# Altium schematic symbol library WS-ROSV SMD Rotary Switch 7 x 7 mm.SchLib: 4 symbols
Pins are listed as number, name and electrical type; pins without a type are passive.

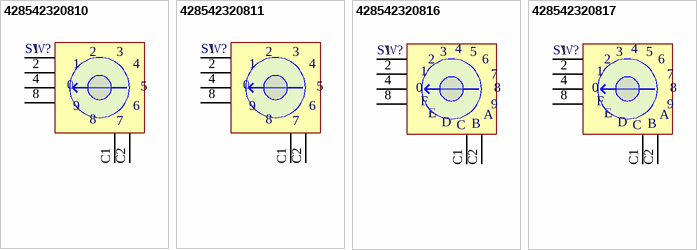
[diagram p0: symbols 428542320810 to 428542320817]

## 428542320810
designator SW?
WS-ROSV SMD Rotary Switch 7 x 7 mm; PartNumber: 428542320810; NoPins: 06; PackageReference: 428542320810; ComponentLink1Description: Manufacturer URL; ComponentLink1URL: http://www.we-online.com; ComponentLink2Description: Datasheet; ComponentLink2URL: http://katalog.we-online.de/em/datasheet/428542320810.pdf
footprint 428542320810 (7*7mm, 10 position, 2.54mm Pitch, Horizontal type, SMD, Round Arrow type, red actuator, real code, T&R)
pins: 1, 2, 4, 8, C1, C2
text: 3; 0; 5; 9; 6; 7

## 428542320811
designator SW?
WS-ROSV SMD Rotary Switch 7 x 7 mm; PartNumber: 428542320811; NoPins: 06; PackageReference: 428542320811; ComponentLink1Description: Manufacturer URL; ComponentLink1URL: http://www.we-online.com; ComponentLink2Description: Datasheet; ComponentLink2URL: http://katalog.we-online.de/em/datasheet/428542320811.pdf
footprint 428542320811 (7*7mm, 10 position, 2.54mm, horizontal type, SMD, Round  Arrow type, orange actuator, complement code, T&R)
pins: 1, 2, 4, 8, C1, C2
text: 3; 0; 5; 9; 6; 7

## 428542320816
designator SW?
WS-ROSV SMD Rotary Switch 7 x 7 mm; PartNumber: 428542320816; NoPins: 06; PackageReference: 428542320816; ComponentLink1Description: Manufacturer URL; ComponentLink1URL: http://www.we-online.com; ComponentLink2Description: Datasheet; ComponentLink2URL: http://katalog.we-online.de/em/datasheet/428542320816.pdf
footprint 428542320816 (7*7mm, 16 position, 2.54mm, horizontal type, SMD, Round  Arrow type, light grey actuator, real code, T&R)
pins: 1, 2, 4, 8, C1, C2
text: 3; 5; 6; 7; 0; F; 9; E; A; D; C; B

## 428542320817
designator SW?
WS-ROSV SMD Rotary Switch 7 x 7 mm; PartNumber: 428542320817; NoPins: 06; PackageReference: 428542320817; ComponentLink1Description: Manufacturer URL; ComponentLink1URL: http://www.we-online.com; ComponentLink2Description: Datasheet; ComponentLink2URL: http://katalog.we-online.de/em/datasheet/428542320817.pdf
footprint 428542320817 (7*7mm, 16 position, 2.54mm Pitch, Horizontal type, SMD, Round Arrow type, ivory actuator, complement code, T&R)
pins: 1, 2, 4, 8, C1, C2
text: 3; 5; 6; 7; 0; F; 9; E; A; D; C; B